# Altium footprint library Inductors.PcbLib: 32 footprints (part 2 of 2)
Each footprint in its own frame and in the unit in brackets; x right, y up, seen from the top. Pads: shape width x height; smd on the part's side, far side on the other; paste and mask are expansions set on the pad; w line width, h text height; cw(c..) or ccw(c..) is an arc to the next point about the centre after c.
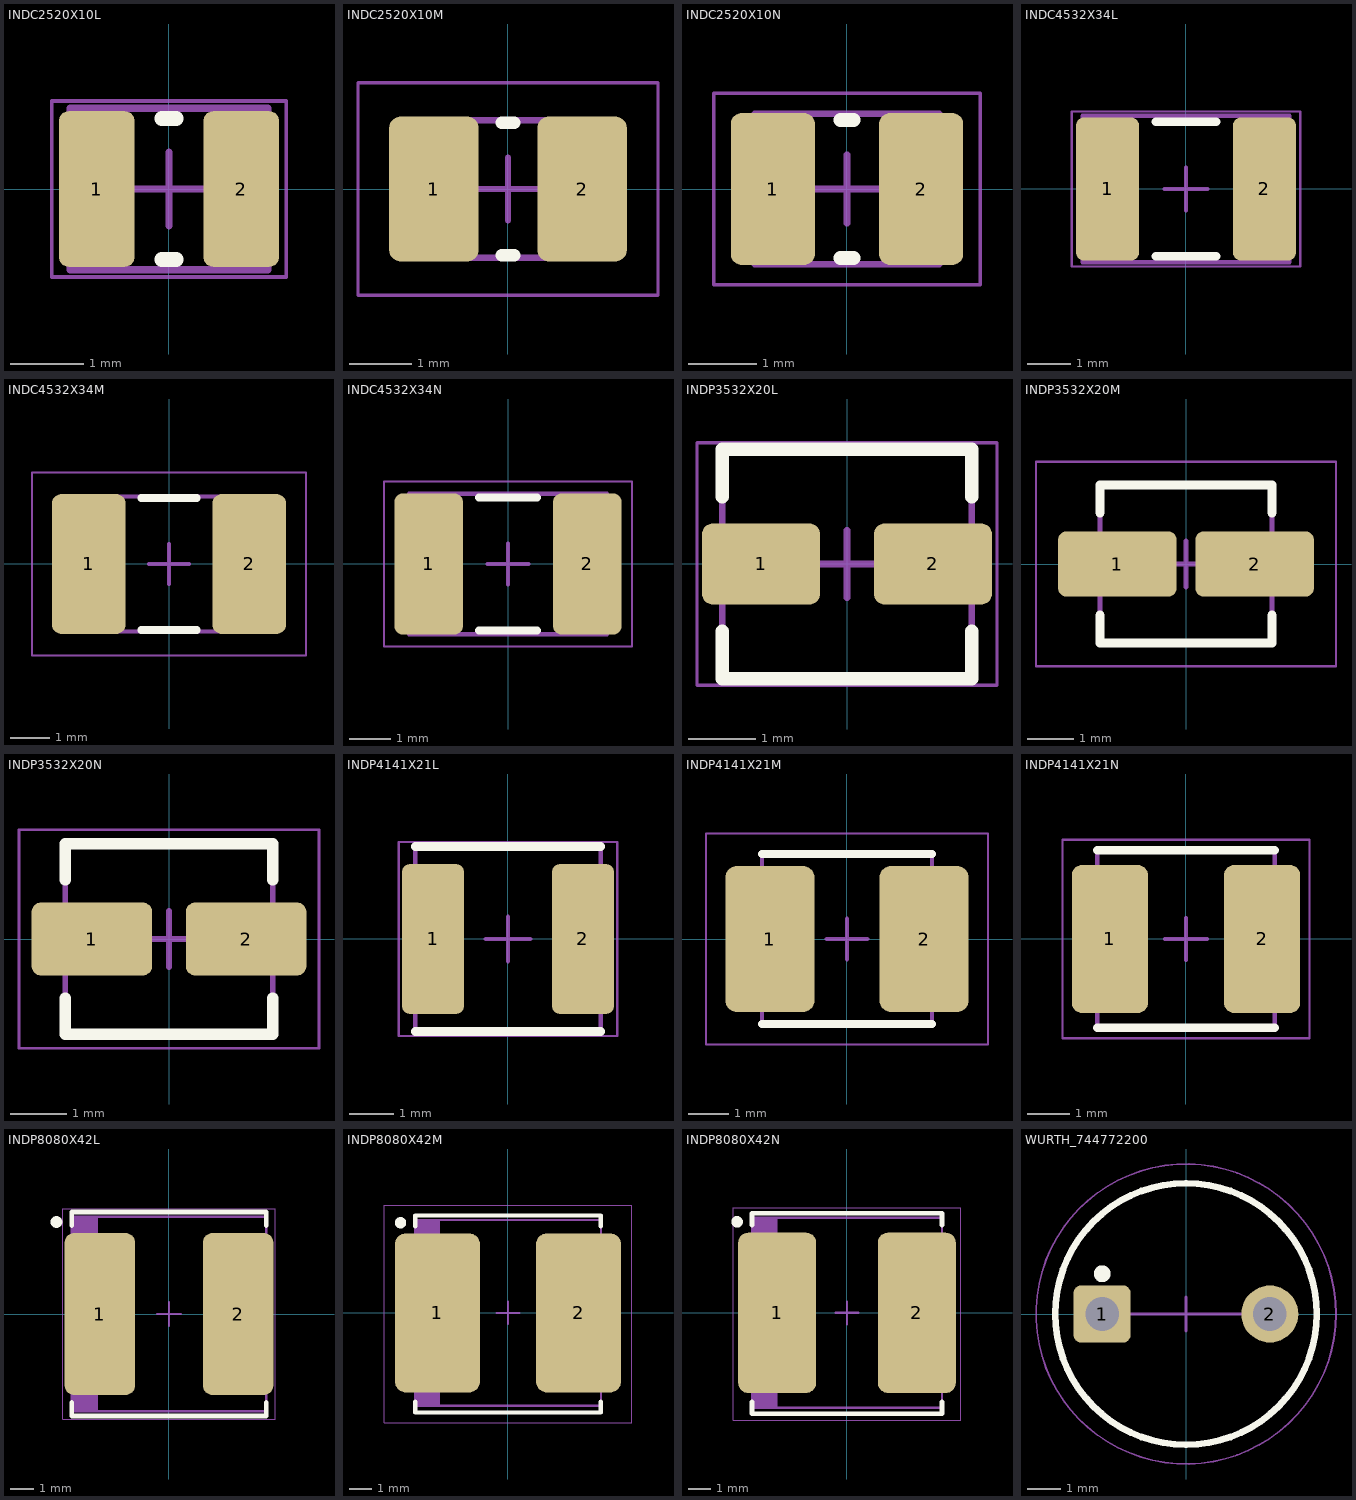
[diagram p1: the footprints below, top view; thin cyan lines are the x and y axes]

## INDC2520X10L [mm] "Chip Inductor, EIA 1008, Metric 2520, Body 2.50x2.00mm, IPC High Density"
height 1
pads (2):
  rrect25% 1.03x2.12 smd paste+0 mask+0.05: 1(-0.985,0) 2(0.985,0)
Top Overlay:
  lines w0.2: -0.1,-0.96 0.1,-0.96 ; -0.1,0.96 0.1,0.96
Top Component Outline:
  lines w0.1: -1.35,-1.1 1.35,-1.1 1.35,1.1 -1.35,1.1 -1.35,-1.1
Top Courtyard:
  lines w0.05: -1.6,-1.2 -1.6,1.2 1.6,1.2 1.6,-1.2 -1.6,-1.2
Top Component Center:
  lines w0.1: -0.5,0 0.5,0 ; 0,-0.5 0,0.5
Top Designator (Mech15):
  text ".Designator" at -4.04,-0.476 h2
Top Assembly:
  lines w0.1: -1.35,-1.1 -1.35,1.1 1.35,1.1 1.35,-1.1 -1.35,-1.1
  text ".Designator" at -4.04,-0.476 h2
3D body "INDC2520X10.step": height 1, standoff 0, extent -1.35,-1.1 1.35,1.1

## INDC2520X10M [mm] "Chip Inductor, EIA 1008, Metric 2520, Body 2.50x2.00mm, IPC Low Density"
height 1
pads (2):
  rrect25% 1.43x2.32 smd paste+0 mask+0.05: 1(-1.185,0) 2(1.185,0)
Top Overlay:
  lines w0.2: -0.1,-1.06 0.1,-1.06 ; -0.1,1.06 0.1,1.06
Top Component Outline:
  lines w0.1: -1.35,-1.1 1.35,-1.1 1.35,1.1 -1.35,1.1 -1.35,-1.1
Top Courtyard:
  lines w0.05: -2.4,-1.7 -2.4,1.7 2.4,1.7 2.4,-1.7 -2.4,-1.7
Top Component Center:
  lines w0.1: -0.5,0 0.5,0 ; 0,-0.5 0,0.5
Top Designator (Mech15):
  text ".Designator" at -4.04,-0.476 h2
Top Assembly:
  lines w0.1: -1.35,-1.1 -1.35,1.1 1.35,1.1 1.35,-1.1 -1.35,-1.1
  text ".Designator" at -4.04,-0.476 h2
3D body "INDC2520X10.step": height 1, standoff 0, extent -1.35,-1.1 1.35,1.1

## INDC2520X10N [mm] "Chip Inductor, EIA 1008, Metric 2520, Body 2.50x2.00mm, IPC Medium Density"
height 1
pads (2):
  rrect25% 1.23x2.22 smd paste+0 mask+0.05: 1(-1.085,0) 2(1.085,0)
Top Overlay:
  lines w0.2: -0.1,-1.01 0.1,-1.01 ; -0.1,1.01 0.1,1.01
Top Component Outline:
  lines w0.1: -1.35,-1.1 1.35,-1.1 1.35,1.1 -1.35,1.1 -1.35,-1.1
Top Courtyard:
  lines w0.05: -1.95,-1.4 1.95,-1.4 1.95,1.4 -1.95,1.4 -1.95,-1.4
Top Component Center:
  lines w0.1: -0.5,0 0.5,0 ; 0,-0.5 0,0.5
Top Designator (Mech15):
  text ".Designator" at -4.04,-0.476 h2
Top Assembly:
  lines w0.1: -1.35,-1.1 1.35,-1.1 1.35,1.1 -1.35,1.1 -1.35,-1.1
  text ".Designator" at -4.04,-0.476 h2
3D body "INDC2520X10.step": height 1, standoff 0, extent -1.35,-1.1 1.35,1.1

## INDC4532X34L [mm] "Chip Inductor, 2-Leads, Body 4.50x3.20mm, IPC High Density"
height 3.4
pads (2):
  rrect25% 1.46x3.32 smd paste+0 mask+0.05: 1(-1.82,0) 2(1.82,0)
Top Overlay:
  lines w0.2: -0.7,-1.56 0.7,-1.56 ; -0.7,1.56 0.7,1.56
Top Component Outline:
  lines w0.1: -2.4,-1.7 -2.4,1.7 2.4,1.7 2.4,-1.7 -2.4,-1.7
Top Courtyard:
  lines w0.05: -2.65,-1.8 2.65,-1.8 2.65,1.8 -2.65,1.8 -2.65,-1.8
Top Component Center:
  lines w0.1: -0.5,0 0.5,0 ; 0,-0.5 0,0.5
Top Designator (Mech15):
  text ".Designator" at -4.04,-0.476 h2
Top Assembly:
  lines w0.1: -2.4,-1.7 2.4,-1.7 2.4,1.7 -2.4,1.7 -2.4,-1.7
  text ".Designator" at -4.04,-0.476 h2
3D body "BOURNS_CM453232 SERIES.step": height 3.2, standoff 0, extent -2.25,-1.6 2.25,1.6

## INDC4532X34M [mm] "Chip Inductor, 2-Leads, Body 4.50x3.20mm, IPC Low Density"
height 3.4
pads (2):
  rrect25% 1.86x3.52 smd paste+0 mask+0.05: 1(-2.02,0) 2(2.02,0)
Top Overlay:
  lines w0.2: -0.7,-1.66 0.7,-1.66 ; -0.7,1.66 0.7,1.66
Top Component Outline:
  lines w0.1: -2.4,-1.7 -2.4,1.7 2.4,1.7 2.4,-1.7 -2.4,-1.7
Top Courtyard:
  lines w0.05: -3.45,-2.3 3.45,-2.3 3.45,2.3 -3.45,2.3 -3.45,-2.3
Top Component Center:
  lines w0.1: -0.5,0 0.5,0 ; 0,-0.5 0,0.5
Top Designator (Mech15):
  text ".Designator" at -4.04,-0.476 h2
Top Assembly:
  lines w0.1: -2.4,-1.7 2.4,-1.7 2.4,1.7 -2.4,1.7 -2.4,-1.7
  text ".Designator" at -4.04,-0.476 h2
3D body "BOURNS_CM453232 SERIES.step": height 3.2, standoff 0, extent -2.25,-1.6 2.25,1.6

## INDC4532X34N [mm] "Chip Inductor, 2-Leads, Body 4.50x3.20mm, IPC Medium Density"
height 3.4
pads (2):
  rrect25% 1.66x3.42 smd paste+0 mask+0.05: 1(-1.92,0) 2(1.92,0)
Top Overlay:
  lines w0.2: -0.7,-1.61 0.7,-1.61 ; -0.7,1.61 0.7,1.61
Top Component Outline:
  lines w0.1: -2.4,-1.7 -2.4,1.7 2.4,1.7 2.4,-1.7 -2.4,-1.7
Top Courtyard:
  lines w0.05: -3,-2 3,-2 3,2 -3,2 -3,-2
Top Component Center:
  lines w0.1: -0.5,0 0.5,0 ; 0,-0.5 0,0.5
Top Designator (Mech15):
  text ".Designator" at -4.04,-0.476 h2
Top Assembly:
  lines w0.1: -2.4,-1.7 2.4,-1.7 2.4,1.7 -2.4,1.7 -2.4,-1.7
  text ".Designator" at -4.04,-0.476 h2
3D body "BOURNS_CM453232 SERIES.step": height 3.2, standoff 0, extent -2.25,-1.6 2.25,1.6

## INDP3532X20L [mm] "Precision Wire Wound Inductor, 2-Leads, Body 3.50x3.20mm, IPC High Density"
height 2
pads (2):
  rrect25% 1.75x1.2 smd paste+0 mask+0.05: 1(-1.275,0) 2(1.275,0)
Top Overlay:
  lines w0.2: -1.85,-1 -1.85,-1.7 1.85,-1.7 1.85,-1 ; -1.85,1 -1.85,1.7 1.85,1.7 1.85,1
Top Component Outline:
  lines w0.1: -1.85,-1.7 1.85,-1.7 1.85,1.7 -1.85,1.7 -1.85,-1.7
Top Courtyard:
  lines w0.05: -2.225,-1.8 -2.225,1.8 2.225,1.8 2.225,-1.8 -2.225,-1.8
Top Component Center:
  lines w0.1: -0.5,0 0.5,0 ; 0,-0.5 0,0.5
Top Designator (Mech15):
  text ".Designator" at -4.04,-0.476 h2
Top Assembly:
  lines w0.1: -1.85,-1.7 -1.85,1.7 1.85,1.7 1.85,-1.7 -1.85,-1.7
  text ".Designator" at -4.04,-0.476 h2
3D body "BOURNS_SRP3020C SERIES.step": height 1.81, standoff 0.01, extent -1.75,-1.6 1.75,1.6

## INDP3532X20M [mm] "Precision Wire Wound Inductor, 2-Leads, Body 3.50x3.20mm, IPC Low Density"
height 2
pads (2):
  rrect25% 2.55x1.4 smd paste+0 mask+0.05: 1(-1.475,0) 2(1.475,0)
Top Overlay:
  lines w0.2: -1.85,-1.1 -1.85,-1.7 1.85,-1.7 1.85,-1.1 ; -1.85,1.1 -1.85,1.7 1.85,1.7 1.85,1.1
Top Component Outline:
  lines w0.1: -1.85,-1.7 -1.85,1.7 1.85,1.7 1.85,-1.7 -1.85,-1.7
Top Courtyard:
  lines w0.05: -3.225,-2.2 3.225,-2.2 3.225,2.2 -3.225,2.2 -3.225,-2.2
Top Component Center:
  lines w0.1: -0.5,0 0.5,0 ; 0,-0.5 0,0.5
Top Designator (Mech15):
  text ".Designator" at -4.04,-0.476 h2
Top Assembly:
  lines w0.1: -1.85,-1.7 1.85,-1.7 1.85,1.7 -1.85,1.7 -1.85,-1.7
  text ".Designator" at -4.04,-0.476 h2
3D body "BOURNS_SRP3020C SERIES.step": height 1.81, standoff 0.01, extent -1.75,-1.6 1.75,1.6

## INDP3532X20N [mm] "Precision Wire Wound Inductor, 2-Leads, Body 3.50x3.20mm, IPC Medium Density"
height 2
pads (2):
  rrect25% 2.15x1.3 smd paste+0 mask+0.05: 1(-1.375,0) 2(1.375,0)
Top Overlay:
  lines w0.2: -1.85,-1.05 -1.85,-1.7 1.85,-1.7 1.85,-1.05 ; -1.85,1.05 -1.85,1.7 1.85,1.7 1.85,1.05
Top Component Outline:
  lines w0.1: -1.85,-1.7 -1.85,1.7 1.85,1.7 1.85,-1.7 -1.85,-1.7
Top Courtyard:
  lines w0.05: -2.675,-1.95 -2.675,1.95 2.675,1.95 2.675,-1.95 -2.675,-1.95
Top Component Center:
  lines w0.1: -0.5,0 0.5,0 ; 0,-0.5 0,0.5
Top Designator (Mech15):
  text ".Designator" at -4.04,-0.476 h2
Top Assembly:
  lines w0.1: -1.85,-1.7 -1.85,1.7 1.85,1.7 1.85,-1.7 -1.85,-1.7
  text ".Designator" at -4.04,-0.476 h2
3D body "BOURNS_SRP3020C SERIES.step": height 1.81, standoff 0.01, extent -1.75,-1.6 1.75,1.6

## INDP4141X21L [mm] "Precision Wire Wound Inductor, 2-Leads, Body 4.10x4.10mm, IPC High Density"
height 2.1
pads (2):
  rrect25% 1.4x3.4 smd paste+0 mask+0.05: 1(-1.7,0) 2(1.7,0)
Top Overlay:
  lines w0.2: -2.1,-2.1 2.1,-2.1 ; -2.1,2.1 2.1,2.1
Top Component Outline:
  lines w0.1: -2.1,-2.1 2.1,-2.1 2.1,2.1 -2.1,2.1 -2.1,-2.1
Top Courtyard:
  lines w0.05: -2.475,-2.2 2.475,-2.2 2.475,2.2 -2.475,2.2 -2.475,-2.2
Top Component Center:
  lines w0.1: -0.5,0 0.5,0 ; 0,-0.5 0,0.5
Top Designator (Mech15):
  text ".Designator" at -4.04,-0.476 h2
Top Assembly:
  lines w0.1: -2.1,-2.1 2.1,-2.1 2.1,2.1 -2.1,2.1 -2.1,-2.1
  text ".Designator" at -4.04,-0.476 h2
3D body "BOURNS_SRP4020FA SERIES.step": height 1.91, standoff 0, extent -2.05,-2.05 2.05,2.05

## INDP4141X21M [mm] "Precision Wire Wound Inductor, 2-Leads, Body 4.10x4.10mm, IPC Low Density"
height 2.1
pads (2):
  rrect25% 2.2x3.6 smd paste+0 mask+0.05: 1(-1.9,0) 2(1.9,0)
Top Overlay:
  lines w0.2: -2.1,-2.1 2.1,-2.1 ; -2.1,2.1 2.1,2.1
Top Component Outline:
  lines w0.1: -2.1,-2.1 -2.1,2.1 2.1,2.1 2.1,-2.1 -2.1,-2.1
Top Courtyard:
  lines w0.05: -3.475,-2.6 -3.475,2.6 3.475,2.6 3.475,-2.6 -3.475,-2.6
Top Component Center:
  lines w0.1: -0.5,0 0.5,0 ; 0,-0.5 0,0.5
Top Designator (Mech15):
  text ".Designator" at -4.04,-0.476 h2
Top Assembly:
  lines w0.1: -2.1,-2.1 -2.1,2.1 2.1,2.1 2.1,-2.1 -2.1,-2.1
  text ".Designator" at -4.04,-0.476 h2
3D body "BOURNS_SRP4020FA SERIES.step": height 1.91, standoff 0, extent -2.05,-2.05 2.05,2.05

## INDP4141X21N [mm] "Precision Wire Wound Inductor, 2-Leads, Body 4.10x4.10mm, IPC Medium Density"
height 2.1
pads (2):
  rrect25% 1.8x3.5 smd paste+0 mask+0.05: 1(-1.8,0) 2(1.8,0)
Top Overlay:
  lines w0.2: -2.1,-2.1 2.1,-2.1 ; -2.1,2.1 2.1,2.1
Top Component Outline:
  lines w0.1: -2.1,-2.1 -2.1,2.1 2.1,2.1 2.1,-2.1 -2.1,-2.1
Top Courtyard:
  lines w0.05: -2.925,-2.35 -2.925,2.35 2.925,2.35 2.925,-2.35 -2.925,-2.35
Top Component Center:
  lines w0.1: -0.5,0 0.5,0 ; 0,-0.5 0,0.5
Top Designator (Mech15):
  text ".Designator" at -4.04,-0.476 h2
Top Assembly:
  lines w0.1: -2.1,-2.1 -2.1,2.1 2.1,2.1 2.1,-2.1 -2.1,-2.1
  text ".Designator" at -4.04,-0.476 h2
3D body "BOURNS_SRP4020FA SERIES.step": height 1.91, standoff 0, extent -2.05,-2.05 2.05,2.05

## INDP8080X42L [mm] "Precision Wire Wound Inductor, 2-Leads, Body 8.00x8.00mm, IPC High Density"
height 4.2
pads (2):
  rrect25% 3x6.9 smd paste+0 mask+0.05: 1(-2.95,0) 2(2.95,0)
Top Overlay:
  circle w0.25: c-4.8,3.925 r0.125
  lines w0.2: -4.15,-3.775 -4.15,-4.35 4.15,-4.35 4.15,-3.775 ; -4.15,3.775 -4.15,4.35 4.15,4.35 4.15,3.775
Top Component Outline:
  lines w0.1: -4.15,-4.15 4.15,-4.15 4.15,4.15 -4.15,4.15 -4.15,-4.15
Top Courtyard:
  lines w0.05: -4.525,-4.5 -4.525,4.5 4.525,4.5 4.525,-4.5 -4.525,-4.5
Top Component Center:
  lines w0.1: -0.5,0 0.5,0 ; 0,-0.5 0,0.5
Top Designator (Mech15):
  text ".Designator" at -4.04,-0.476 h2
Top Assembly:
  rectangle: -4.15,-4.15 -3.034,4.15
  lines w0.1: -4.15,-4.15 -4.15,4.15 4.15,4.15 4.15,-4.15 -4.15,-4.15
  text ".Designator" at -4.04,-0.476 h2
3D body "WURTH_74404084220.step": height 4.2, standoff 0, extent -4,-4 4,4

## INDP8080X42M [mm] "Precision Wire Wound Inductor, 2-Leads, Body 8.00x8.00mm, IPC Low Density"
height 4.2
pads (2):
  rrect25% 3.8x7.1 smd paste+0 mask+0.05: 1(-3.15,0) 2(3.15,0)
Top Overlay:
  circle w0.25: c-4.8,4.025 r0.125
  lines w0.2: -4.15,-3.975 -4.15,-4.45 4.15,-4.45 4.15,-3.975 ; -4.15,3.875 -4.15,4.35 4.15,4.35 4.15,3.875
Top Component Outline:
  lines w0.1: -4.15,-4.15 4.15,-4.15 4.15,4.15 -4.15,4.15 -4.15,-4.15
Top Courtyard:
  lines w0.05: -5.525,-4.9 5.525,-4.9 5.525,4.8 -5.525,4.8 -5.525,-4.9
Top Component Center:
  lines w0.1: -0.5,0 0.5,0 ; 0,-0.5 0,0.5
Top Designator (Mech15):
  text ".Designator" at -4.04,-0.476 h2
Top Assembly:
  rectangle: -4.15,-4.15 -3.034,4.15
  lines w0.1: -4.15,-4.15 4.15,-4.15 4.15,4.15 -4.15,4.15 -4.15,-4.15
  text ".Designator" at -4.04,-0.476 h2
3D body "WURTH_74404084220.step": height 4.2, standoff 0, extent -4,-4 4,4

## INDP8080X42N [mm] "Precision Wire Wound Inductor, 2-Leads, Body 8.00x8.00mm, IPC Medium Density"
height 4.2
pads (2):
  rrect25% 3.4x7 smd paste+0 mask+0.05: 1(-3.05,0) 2(3.05,0)
Top Overlay:
  circle w0.25: c-4.8,3.975 r0.125
  lines w0.2: -4.15,-3.875 -4.15,-4.4 4.15,-4.4 4.15,-3.875 ; -4.15,3.825 -4.15,4.35 4.15,4.35 4.15,3.825
Top Component Outline:
  lines w0.1: -4.15,-4.15 4.15,-4.15 4.15,4.15 -4.15,4.15 -4.15,-4.15
Top Courtyard:
  lines w0.05: -4.975,-4.7 4.975,-4.7 4.975,4.6 -4.975,4.6 -4.975,-4.7
Top Component Center:
  lines w0.1: -0.5,0 0.5,0 ; 0,-0.5 0,0.5
Top Designator (Mech15):
  text ".Designator" at -4.04,-0.476 h2
Top Assembly:
  rectangle: -4.15,-4.15 -3.034,4.15
  lines w0.1: -4.15,-4.15 4.15,-4.15 4.15,4.15 -4.15,4.15 -4.15,-4.15
  text ".Designator" at -4.04,-0.476 h2
3D body "WURTH_74404084220.step": height 4.2, standoff 0, extent -4,-4 4,4

## WURTH_744772200 [mm] "20 µH Unshielded Drum Core, Wirewound Inductor 2.6 A 50mOhm Max Radial, Vertical Cylinder (Open)"
height 9.4
pads (2):
  rrect25% 1.7x1.7 hole 1 paste+0 mask+0.05: 1(-2.5,0)
  round 1.7 hole 1 paste+0 mask+0.05: 2(2.5,0)
Top Overlay:
  circle w0.3: c-2.5,1.2 r0.1
  circle w0.2: c0,0 r3.9
Top Component Outline:
  circle w0.1: c0,0 r3.9
  lines w0.1: -2.5,0 2.5,0
Top Courtyard:
  circle w0.05: c0,0 r4.472
Top Component Center:
  lines w0.1: -0.5,0 0.5,0 ; 0,-0.5 0,0.5
Top Designator (Mech15):
  text ".Designator" at -4.04,-0.476 h2
Top Assembly:
  circle w0.1: c0,0 r3.9
  lines w0.1: -2.5,0 2.5,0
  text ".Designator" at -4.04,-0.476 h2
3D body "WURTH_744772200.step": height 9.4, standoff -5.1, extent -5.515,-5.515 5.515,5.515